# Altium schematic symbol library Chips.SchLib: 3 symbols
Pins are listed as number, name and electrical type; pins without a type are passive.

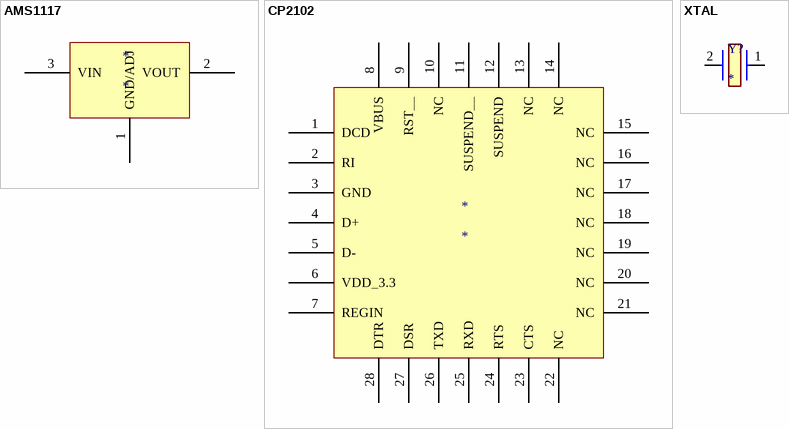
[diagram p0: symbols AMS1117 to XTAL]

## AMS1117
designator *
Power module
footprint SOT_223 ([AMS1117-XX, etc])
pins: 1 GND/ADJ, 2 VOUT, 3 VIN

## CP2102
designator *
TTL/USB signal converter
footprint QFN28 ([CP2102, etc])
pins: 1 DCD, 2 RI, 3 GND, 4 D+, 5 D-, 6 VDD_3.3, 7 REGIN, 8 VBUS, 9 RST__, 10 NC, 11 SUSPEND__, 12 SUSPEND, 13 NC, 14 NC, 15 NC, 16 NC, 17 NC, 18 NC, 19 NC, 20 NC, 21 NC, 22 NC, 23 CTS, 24 RTS, 25 RXD, 26 TXD, 27 DSR, 28 DTR

## XTAL
designator Y?
Crystal or Oscillator; Manufacturer_Name: TXC; Manufacturer_Part_Number: 9B-10.000MAAJ-B; Description: Crystals 10.000MHz 30ppm -20 +70C 18pF; Datasheet Link: https://eu.mouser.com/datasheet/2/417/9b-14516.pdf; Height: 3.68mm; Mouser Part Number: 717-9B-10.000MAAJ-B; Mouser Price/Stock: https://www.mouser.co.uk/ProductDetail/TXC-Corporation/9B-10000MAAJ-B?qs=65dIHZNch5sbEgfgairbyQ%3D%3D; Arrow Part Number: 9B-10.000MAAJ-B; Arrow Price/Stock: https://www.arrow.com/en/products/9b-10.000maaj-b/txc-corporation
footprint XTAL_2 (Crystal Oscillator)
pins: 1, 2 CRYSTAL_2